# EAGLE library part B8B-PHDSS (library con-jst-phd)
JST PHD series header 2.00mm pitch disconnectable crimp style connectors, vertical (side entry type), 8 pins
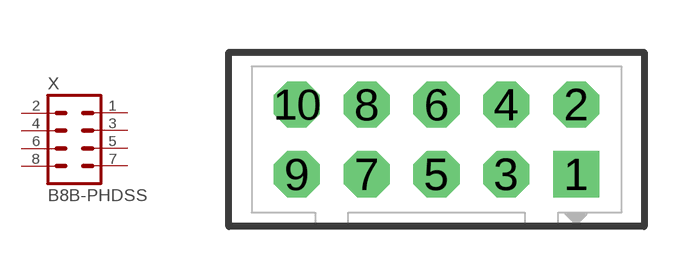
[diagram p0: symbol with the pads of B8B-PHDSS; footprint B8B-PHDSS]

Designator prefix X

## B8B-PHDSS  [B8B-PHDSS]
1  1  pas
2  2  pas
3  3  pas
4  4  pas
5  5  pas
6  6  pas
7  7  pas
8  8  pas

## B8B-PHDSS-B  [B8B-PHDSS]
Pads as for B8B-PHDSS

## Footprint B8B-PHDSS (pad centres in mm)
JST PHD series header 2.00mm pitch disconnectable crimp style connectors, through-hole vertical (top entry type), 8 pins
drill 0.7 pad 1.321 square: 1 4,-1
drill 0.7 pad 1.321 octagon: 2 4,1; 3 2,-1; 4 2,1; 5 0,-1; 6 0,1; 7 -2,-1; 8 -2,1; 9 -4,-1; 10 -4,1